# Altium footprint library Ind_TDK_VLF4012AT-2R2M1R5_eec_0.PcbLib: 1 footprints
Each footprint in its own frame and in the unit in brackets; x right, y up, seen from the top. Pads: shape width x height; smd on the part's side, far side on the other; paste and mask are expansions set on the pad; w line width, h text height; cw(c..) or ccw(c..) is an arc to the next point about the centre after c.
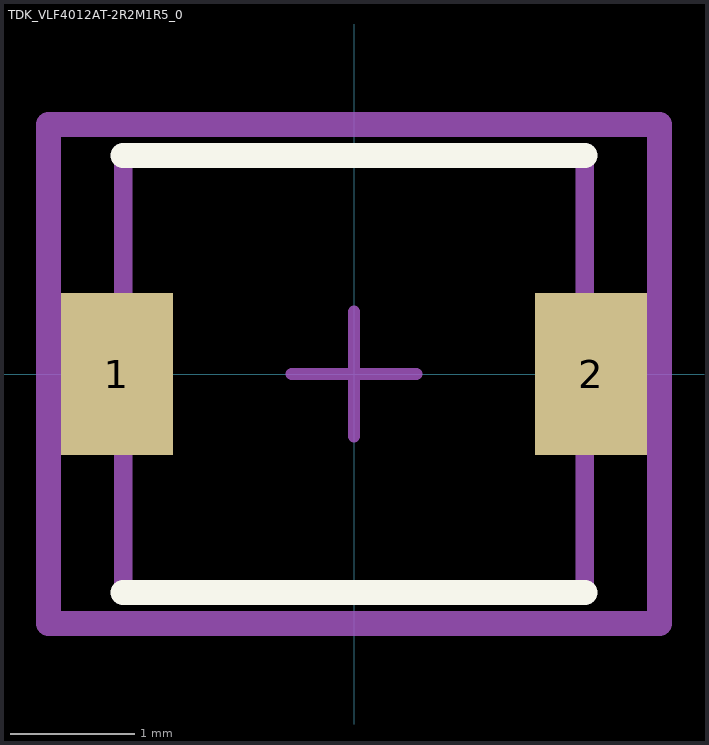
[diagram p0: the footprint, top view; thin cyan lines are the x and y axes]

## TDK_VLF4012AT-2R2M1R5_0 [mm]
pads (2):
  rect 0.9x1.3 smd paste+0 mask+0: 1(-1.9,0) 2(1.9,0)
Top Overlay:
  lines w0.2: -1.85,-1.75 1.85,-1.75 ; -1.85,1.75 1.85,1.75
Mechanical 10:
  lines w0.2: -2.45,-2 2.45,-2 2.45,2 -2.45,2 -2.45,-2
  text ".Designator" at 0,0 h1
Mechanical 12:
  lines w0.15: -1.85,-1.75 1.85,-1.75 1.85,1.75 -1.85,1.75 -1.85,-1.75
Mechanical 15:
  lines w0.1: -0.5,0 0.5,0 ; 0,-0.5 0,0.5
  lines w0.2: -2.45,-2 2.45,-2 2.45,2 -2.45,2 -2.45,-2
3D body "3dmodel.step": height 0.25, standoff 0, extent -2.45,-2 2.45,2